# Altium schematic symbol library ADuM4121ARIZ_Driver.SchLib: 1 symbol
Pins are listed as number, name and electrical type; pins without a type are passive.

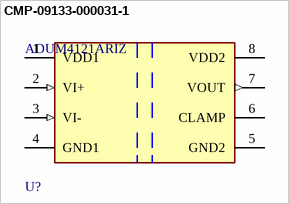
[diagram p0: symbol CMP-09133-000031-1]

## CMP-09133-000031-1
designator U?, comment ADUM4121ARIZ
DGTL ISO 5KV 1CH GATE DRVR 8SOIC; RoHS Compliant: Yes; Number of Pins: 8
footprint FP-RI-8-1-IPC_A
footprint FP-RI-8-1-IPC_B
footprint FP-RI-8-1-IPC_C
pins: 1 VDD1 (power), 2 VI+ (in), 3 VI- (in), 4 GND1 (power), 5 GND2 (power), 6 CLAMP, 7 VOUT (out), 8 VDD2 (power)